# Altium schematic symbol library MR30PW.SchLib: 1 symbol
Pins are listed as number, name and electrical type; pins without a type are passive.

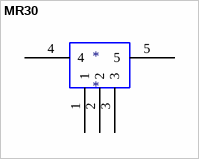
[diagram p0: symbol MR30]

## MR30
designator *
pins: 1, 2, 3, 4, 5